# Altium schematic symbol library Garbage sort.SCHLIB: 34 symbols
Pins are listed as number, name and electrical type; pins without a type are passive.

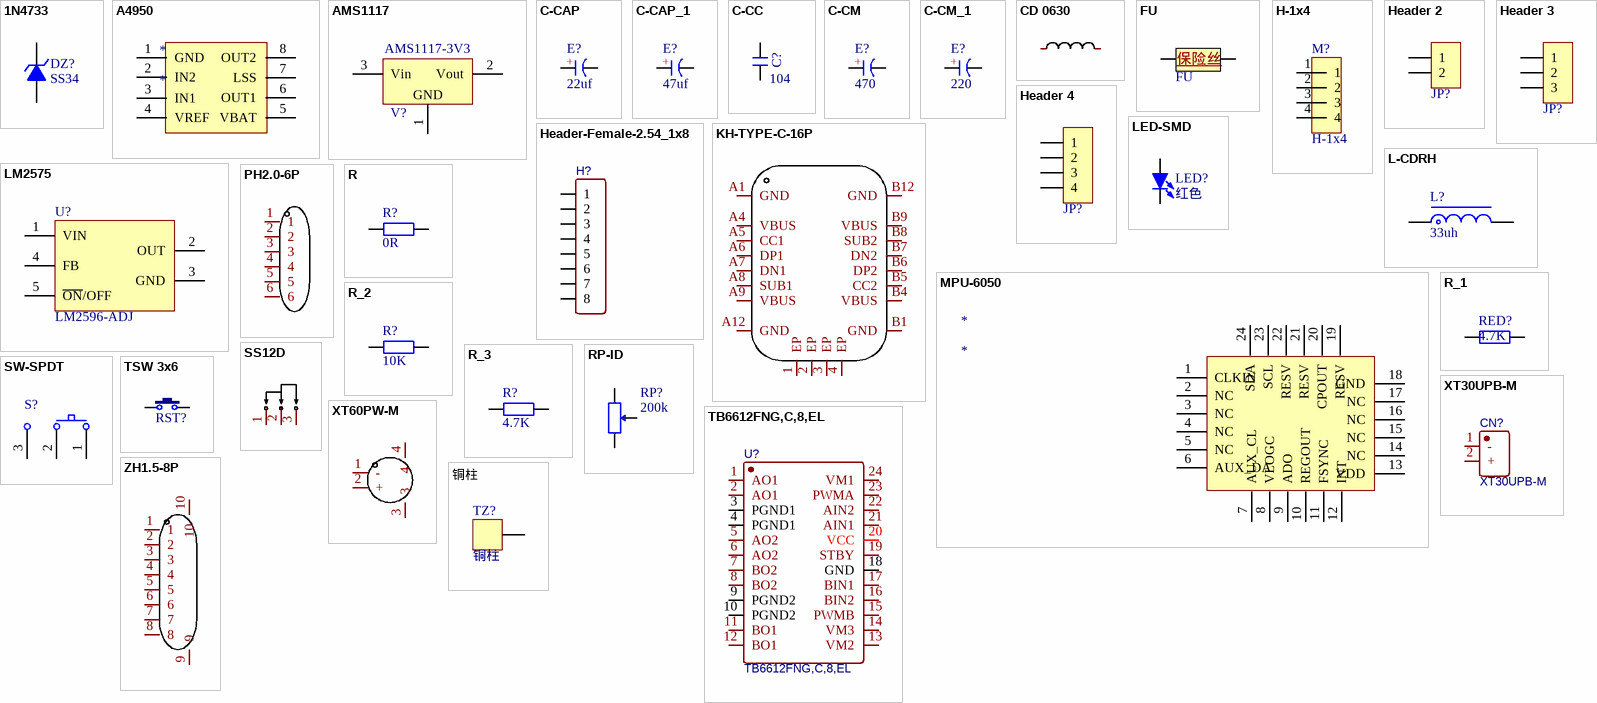
[diagram p0: symbols 1N4733 to 铜柱]

## 1N4733
designator DZ?, comment SS34
5.1V/1W稳压管; 版权归属: 源创客; BOM名称: 5.1V/1W稳压管; 学习资源: www.ooocke.com
footprint DO-41 (2.6*9.1mm(直径，脚距）)
footprint MELF (LL41) (2.4*5.3mm(直径，脚距）)
footprint DO-41V (2.6*3.5mm(直径，脚距）)
footprint SMA (4.5x2.6*2.2mm（长宽高，不包括引脚）)
pins: 1 A, 2 K

## A4950
designator *
全桥电机驱动芯片
footprint Model Name (Footprint not found)
pins: 1 GND, 2 IN2, 3 IN1, 4 VREF, 5 VBAT, 6 OUT1, 7 LSS, 8 OUT2

## AMS1117
designator V?, comment AMS1117-3V3
三端稳压芯片; BOM名称: 稳压芯片; 版权归属: 源创客; 学习资源: www.ooocke.com
footprint SOT223_L (6.4x7x1.6mm(长宽高))
footprint SOT223_M (6.4x7x1.6mm(长宽高))
footprint SOT223_N (6.4x7x1.6mm(长宽高))
footprint SOT89_L (4.6x4.3x1.6mm(长宽高))
footprint SOT89_N (4.6x4.3x1.6mm(长宽高))
footprint SOT89_M (4.6x4.3x1.6mm(长宽高))
pins: 1 GND, 2 Vout, 3 Vin

## C-CAP
designator E?, comment 22uf
直插电解电容; 版权归属: 源创客; BOM名称: 直插电解电容; 学习资源: www.ooocke.com
footprint CAP 1.5*4*8 (脚距1.5mm直径4mm高度8mm)
footprint CAP 1.5*4*8 - BK (脚距1.5mm直径4mm高度8mm)
footprint CAP 1.5*4*8 - GD (脚距1.5mm直径4mm高度8mm)
footprint CAP 1.5*4*8-H (脚距1.5mm直径4mm高度8mm)
footprint CAP 1.5*4*8-H - BK (脚距1.5mm直径4mm高度8mm)
footprint CAP 1.5*4*8-H - GD (脚距1.5mm直径4mm高度8mm)
footprint CAP 2.0*5*11 (脚距2mm直径5mm高度11mm)
footprint CAP 2.0*5*11 - BK (脚距2mm直径5mm高度11mm)
footprint CAP 2.0*5*11 - GD (脚距2mm直径5mm高度11mm)
footprint CAP 2.0*5*11-H (脚距2mm直径5mm高度11mm)
footprint CAP 2.0*5*11-H - BK (脚距2mm直径5mm高度11mm)
footprint CAP 2.0*5*11-H - GD (脚距2mm直径5mm高度11mm)
footprint CAP 2.5*5*11 (脚距2.5mm直径5mm高度11mm)
footprint CAP 2.5*5*11 - BK (脚距2.5mm直径5mm高度11mm)
footprint CAP 2.5*5*11 - GD (脚距2.5mm直径5mm高度11mm)
footprint CAP 2.5*5*11-H (脚距2.5mm直径5mm高度11mm)
footprint CAP 2.5*5*11-H - BK (脚距2.5mm直径5mm高度11mm)
footprint CAP 2.5*5*11-H - GD (脚距2.5mm直径5mm高度11mm)
footprint CAP 2.5*6.3*7 (脚距2.5mm直径6.3mm高度7mm)
footprint CAP 2.5*6.3*7 - BK (脚距2.5mm直径6.3mm高度7mm)
footprint CAP 2.5*6.3*7 - GD (脚距2.5mm直径6.3mm高度7mm)
footprint CAP 2.5*6.3*7-H (脚距2.5mm直径6.3mm高度7mm)
footprint CAP 2.5*6.3*7-H - BK (脚距2.5mm直径6.3mm高度7mm)
footprint CAP 2.5*6.3*7-H - GD (脚距2.5mm直径6.3mm高度7mm)
footprint CAP 2.5*6.3*11.2 (脚距2.5mm直径6.3mm高度11.2mm)
footprint CAP 2.5*6.3*11.2 - BK (脚距2.5mm直径6.3mm高度11.2mm)
footprint CAP 2.5*6.3*11.2 - GD (脚距2.5mm直径6.3mm高度11.2mm)
footprint CAP 2.5*6.3*11.2-H (脚距2.5mm直径6.3mm高度11.2mm)
footprint CAP 2.5*6.3*11.2-H - BK (脚距2.5mm直径6.3mm高度11.2mm)
footprint CAP 2.5*6.3*11.2-H - GD (脚距2.5mm直径6.3mm高度11.2mm)
footprint CAP 3.5*8*11.5 (脚距3.5mm直径8mm高度11.5mm)
footprint CAP 3.5*8*11.5 - BK (脚距3.5mm直径8mm高度11.5mm)
footprint CAP 3.5*8*11.5 - GD (脚距3.5mm直径8mm高度11.5mm)
footprint CAP 3.5*8*11.5-H (脚距3.5mm直径8mm高度11.5mm)
footprint CAP 3.5*8*11.5-H - BK (脚距3.5mm直径8mm高度11.5mm)
footprint CAP 3.5*8*11.5-H - GD (脚距3.5mm直径8mm高度11.5mm)
footprint CAP 5.0*10*12.5 (脚距5mm直径10mm高度12.5mm)
footprint CAP 5.0*10*12.5 - BK (脚距5mm直径10mm高度12.5mm)
footprint CAP 5.0*10*12.5 - GD (脚距5mm直径10mm高度12.5mm)
footprint CAP 5.0*10*12.5-H (脚距5mm直径10mm高度12.5mm)
footprint CAP 5.0*10*12.5-H - BK (脚距5mm直径10mm高度12.5mm)
footprint CAP 5.0*10*12.5-H - GD (脚距5mm直径10mm高度12.5mm)
footprint CAP 5.0*10*16 (脚距5mm直径10mm高度16mm)
footprint CAP 5.0*10*16 - BK (脚距5mm直径10mm高度16mm)
footprint CAP 5.0*10*16 - GD (脚距5mm直径10mm高度16mm)
footprint CAP 5.0*10*16-H (脚距5mm直径10mm高度16mm)
footprint CAP 5.0*10*16-H - BK (脚距5mm直径10mm高度16mm)
footprint CAP 5.0*10*16-H - GD (脚距5mm直径10mm高度16mm)
footprint CAP 5.0*10*20 (脚距5mm直径10mm高度20mm)
footprint CAP 5.0*10*20 - BK (脚距5mm直径10mm高度20mm)
footprint CAP 5.0*10*20 - GD (脚距5mm直径10mm高度20mm)
footprint CAP 5.0*10*20-H (脚距5mm直径10mm高度20mm)
footprint CAP 5.0*10*20-H - BK (脚距5mm直径10mm高度20mm)
footprint CAP 5.0*10*20-H - GD (脚距5mm直径10mm高度20mm)
footprint CAP 5.0*12.5*20 (脚距5mm直径12.5mm高度20mm)
footprint CAP 5.0*12.5*20 - BK (脚距5mm直径12.5mm高度20mm)
footprint CAP 5.0*12.5*20 - GD (脚距5mm直径12.5mm高度20mm)
footprint CAP 5.0*12.5*20-H (脚距5mm直径12.5mm高度20mm)
footprint CAP 5.0*12.5*20-H - BK (脚距5mm直径12.5mm高度20mm)
footprint CAP 5.0*12.5*20-H - GD (脚距5mm直径12.5mm高度20mm)
footprint CAP 5.0*12.5*25 (脚距5mm直径12.5mm高度25mm)
footprint CAP 5.0*12.5*25 - BK (脚距5mm直径12.5mm高度25mm)
footprint CAP 5.0*12.5*25 - GD (脚距5mm直径12.5mm高度25mm)
footprint CAP 5.0*12.5*25-H (脚距5mm直径12.5mm高度25mm)
footprint CAP 5.0*12.5*25-H - BK (脚距5mm直径12.5mm高度25mm)
footprint CAP 5.0*12.5*25-H - GD (脚距5mm直径12.5mm高度25mm)
footprint CAP 7.5*16*25 (脚距7.5mm直径16mm高度25mm)
footprint CAP 7.5*16*25 - BK (脚距7.5mm直径16mm高度25mm)
footprint CAP 7.5*16*25 - GD (脚距7.5mm直径16mm高度25mm)
footprint CAP 7.5*16*25-H (脚距7.5mm直径16mm高度25mm)
footprint CAP 7.5*16*25-H - BK (脚距7.5mm直径16mm高度25mm)
footprint CAP 7.5*16*25-H - GD (脚距7.5mm直径16mm高度25mm)
footprint CAP 7.5*16*31.5 (脚距7.5mm直径16mm高度31.5mm)
footprint CAP 7.5*16*31.5 - BK (脚距7.5mm直径16mm高度31.5mm)
footprint CAP 7.5*16*31.5 - GD (脚距7.5mm直径16mm高度31.5mm)
footprint CAP 7.5*16*31.5-H (脚距7.5mm直径16mm高度31.5mm)
footprint CAP 7.5*16*31.5-H - BK (脚距7.5mm直径16mm高度31.5mm)
footprint CAP 7.5*16*31.5-H - GD (脚距7.5mm直径16mm高度31.5mm)
footprint CAP 7.5*18*35.5 (脚距7.5mm直径18mm高度35.5mm)
footprint CAP 7.5*18*35.5 - BK (脚距7.5mm直径18mm高度35.5mm)
footprint CAP 7.5*18*35.5 - GD (脚距7.5mm直径18mm高度35.5mm)
footprint CAP 7.5*18*35.5-H (脚距7.5mm直径18mm高度35.5mm)
footprint CAP 7.5*18*35.5-H - BK (脚距7.5mm直径18mm高度35.5mm)
footprint CAP 7.5*18*35.5-H - GD (脚距7.5mm直径18mm高度35.5mm)
footprint CAP 10*22*31.5 (脚距10mm直径22mm高度31.5mm)
footprint CAP 10*22*31.5 - BK (脚距10mm直径22mm高度31.5mm)
footprint CAP 10*22*31.5 - GD (脚距10mm直径22mm高度31.5mm)
footprint CAP 10*22*40 (脚距10mm直径22mm高度40mm)
footprint CAP 10*22*40 - BK (脚距10mm直径22mm高度40mm)
footprint CAP 10*22*40 - GD (脚距10mm直径22mm高度40mm)
footprint CAP 1.5*4*8-H - BK (脚距1.5mm直径4mm高度8mm)
pins: 1 A, 2 K
text: +

## C-CAP_1
designator E?, comment 47uf
直插电解电容; 版权归属: 源创客; BOM名称: 直插电解电容; 学习资源: www.ooocke.com
footprint CAP 1.5*4*8 (脚距1.5mm直径4mm高度8mm)
footprint CAP 1.5*4*8 - BK (脚距1.5mm直径4mm高度8mm)
footprint CAP 1.5*4*8 - GD (脚距1.5mm直径4mm高度8mm)
footprint CAP 1.5*4*8-H (脚距1.5mm直径4mm高度8mm)
footprint CAP 1.5*4*8-H - BK (脚距1.5mm直径4mm高度8mm)
footprint CAP 1.5*4*8-H - GD (脚距1.5mm直径4mm高度8mm)
footprint CAP 2.0*5*11 (脚距2mm直径5mm高度11mm)
footprint CAP 2.0*5*11 - BK (脚距2mm直径5mm高度11mm)
footprint CAP 2.0*5*11 - GD (脚距2mm直径5mm高度11mm)
footprint CAP 2.0*5*11-H (脚距2mm直径5mm高度11mm)
footprint CAP 2.0*5*11-H - BK (脚距2mm直径5mm高度11mm)
footprint CAP 2.0*5*11-H - GD (脚距2mm直径5mm高度11mm)
footprint CAP 2.5*5*11 (脚距2.5mm直径5mm高度11mm)
footprint CAP 2.5*5*11 - BK (脚距2.5mm直径5mm高度11mm)
footprint CAP 2.5*5*11 - GD (脚距2.5mm直径5mm高度11mm)
footprint CAP 2.5*5*11-H (脚距2.5mm直径5mm高度11mm)
footprint CAP 2.5*5*11-H - BK (脚距2.5mm直径5mm高度11mm)
footprint CAP 2.5*5*11-H - GD (脚距2.5mm直径5mm高度11mm)
footprint CAP 2.5*6.3*7 (脚距2.5mm直径6.3mm高度7mm)
footprint CAP 2.5*6.3*7 - BK (脚距2.5mm直径6.3mm高度7mm)
footprint CAP 2.5*6.3*7 - GD (脚距2.5mm直径6.3mm高度7mm)
footprint CAP 2.5*6.3*7-H (脚距2.5mm直径6.3mm高度7mm)
footprint CAP 2.5*6.3*7-H - BK (脚距2.5mm直径6.3mm高度7mm)
footprint CAP 2.5*6.3*7-H - GD (脚距2.5mm直径6.3mm高度7mm)
footprint CAP 2.5*6.3*11.2 (脚距2.5mm直径6.3mm高度11.2mm)
footprint CAP 2.5*6.3*11.2 - BK (脚距2.5mm直径6.3mm高度11.2mm)
footprint CAP 2.5*6.3*11.2 - GD (脚距2.5mm直径6.3mm高度11.2mm)
footprint CAP 2.5*6.3*11.2-H (脚距2.5mm直径6.3mm高度11.2mm)
footprint CAP 2.5*6.3*11.2-H - BK (脚距2.5mm直径6.3mm高度11.2mm)
footprint CAP 2.5*6.3*11.2-H - GD (脚距2.5mm直径6.3mm高度11.2mm)
footprint CAP 3.5*8*11.5 (脚距3.5mm直径8mm高度11.5mm)
footprint CAP 3.5*8*11.5 - BK (脚距3.5mm直径8mm高度11.5mm)
footprint CAP 3.5*8*11.5 - GD (脚距3.5mm直径8mm高度11.5mm)
footprint CAP 3.5*8*11.5-H (脚距3.5mm直径8mm高度11.5mm)
footprint CAP 3.5*8*11.5-H - BK (脚距3.5mm直径8mm高度11.5mm)
footprint CAP 3.5*8*11.5-H - GD (脚距3.5mm直径8mm高度11.5mm)
footprint CAP 5.0*10*12.5 (脚距5mm直径10mm高度12.5mm)
footprint CAP 5.0*10*12.5 - BK (脚距5mm直径10mm高度12.5mm)
footprint CAP 5.0*10*12.5 - GD (脚距5mm直径10mm高度12.5mm)
footprint CAP 5.0*10*12.5-H (脚距5mm直径10mm高度12.5mm)
footprint CAP 5.0*10*12.5-H - BK (脚距5mm直径10mm高度12.5mm)
footprint CAP 5.0*10*12.5-H - GD (脚距5mm直径10mm高度12.5mm)
footprint CAP 5.0*10*16 (脚距5mm直径10mm高度16mm)
footprint CAP 5.0*10*16 - BK (脚距5mm直径10mm高度16mm)
footprint CAP 5.0*10*16 - GD (脚距5mm直径10mm高度16mm)
footprint CAP 5.0*10*16-H (脚距5mm直径10mm高度16mm)
footprint CAP 5.0*10*16-H - BK (脚距5mm直径10mm高度16mm)
footprint CAP 5.0*10*16-H - GD (脚距5mm直径10mm高度16mm)
footprint CAP 5.0*10*20 (脚距5mm直径10mm高度20mm)
footprint CAP 5.0*10*20 - BK (脚距5mm直径10mm高度20mm)
footprint CAP 5.0*10*20 - GD (脚距5mm直径10mm高度20mm)
footprint CAP 5.0*10*20-H (脚距5mm直径10mm高度20mm)
footprint CAP 5.0*10*20-H - BK (脚距5mm直径10mm高度20mm)
footprint CAP 5.0*10*20-H - GD (脚距5mm直径10mm高度20mm)
footprint CAP 5.0*12.5*20 (脚距5mm直径12.5mm高度20mm)
footprint CAP 5.0*12.5*20 - BK (脚距5mm直径12.5mm高度20mm)
footprint CAP 5.0*12.5*20 - GD (脚距5mm直径12.5mm高度20mm)
footprint CAP 5.0*12.5*20-H (脚距5mm直径12.5mm高度20mm)
footprint CAP 5.0*12.5*20-H - BK (脚距5mm直径12.5mm高度20mm)
footprint CAP 5.0*12.5*20-H - GD (脚距5mm直径12.5mm高度20mm)
footprint CAP 5.0*12.5*25 (脚距5mm直径12.5mm高度25mm)
footprint CAP 5.0*12.5*25 - BK (脚距5mm直径12.5mm高度25mm)
footprint CAP 5.0*12.5*25 - GD (脚距5mm直径12.5mm高度25mm)
footprint CAP 5.0*12.5*25-H (脚距5mm直径12.5mm高度25mm)
footprint CAP 5.0*12.5*25-H - BK (脚距5mm直径12.5mm高度25mm)
footprint CAP 5.0*12.5*25-H - GD (脚距5mm直径12.5mm高度25mm)
footprint CAP 7.5*16*25 (脚距7.5mm直径16mm高度25mm)
footprint CAP 7.5*16*25 - BK (脚距7.5mm直径16mm高度25mm)
footprint CAP 7.5*16*25 - GD (脚距7.5mm直径16mm高度25mm)
footprint CAP 7.5*16*25-H (脚距7.5mm直径16mm高度25mm)
footprint CAP 7.5*16*25-H - BK (脚距7.5mm直径16mm高度25mm)
footprint CAP 7.5*16*25-H - GD (脚距7.5mm直径16mm高度25mm)
footprint CAP 7.5*16*31.5 (脚距7.5mm直径16mm高度31.5mm)
footprint CAP 7.5*16*31.5 - BK (脚距7.5mm直径16mm高度31.5mm)
footprint CAP 7.5*16*31.5 - GD (脚距7.5mm直径16mm高度31.5mm)
footprint CAP 7.5*16*31.5-H (脚距7.5mm直径16mm高度31.5mm)
footprint CAP 7.5*16*31.5-H - BK (脚距7.5mm直径16mm高度31.5mm)
footprint CAP 7.5*16*31.5-H - GD (脚距7.5mm直径16mm高度31.5mm)
footprint CAP 7.5*18*35.5 (脚距7.5mm直径18mm高度35.5mm)
footprint CAP 7.5*18*35.5 - BK (脚距7.5mm直径18mm高度35.5mm)
footprint CAP 7.5*18*35.5 - GD (脚距7.5mm直径18mm高度35.5mm)
footprint CAP 7.5*18*35.5-H (脚距7.5mm直径18mm高度35.5mm)
footprint CAP 7.5*18*35.5-H - BK (脚距7.5mm直径18mm高度35.5mm)
footprint CAP 7.5*18*35.5-H - GD (脚距7.5mm直径18mm高度35.5mm)
footprint CAP 10*22*31.5 (脚距10mm直径22mm高度31.5mm)
footprint CAP 10*22*31.5 - BK (脚距10mm直径22mm高度31.5mm)
footprint CAP 10*22*31.5 - GD (脚距10mm直径22mm高度31.5mm)
footprint CAP 10*22*40 (脚距10mm直径22mm高度40mm)
footprint CAP 10*22*40 - BK (脚距10mm直径22mm高度40mm)
footprint CAP 10*22*40 - GD (脚距10mm直径22mm高度40mm)
footprint CAP 1.5*4*8-H - BK (脚距1.5mm直径4mm高度8mm)
pins: 1 A, 2 K
text: +

## C-CC
designator C?, comment 104
直插瓷片电容; 版权归属: 源创客; BOM名称: 直插瓷片电容; 学习资源: www.ooocke.com
footprint CC 1.8*3.6 (脚距1.8mm直径3.6mm)
footprint CC 2.2*5 (脚距2.2mm直径5mm)
footprint 0805
footprint C 0805_M (无极性贴片电容)
pins: 1, 2

## C-CM
designator E?, comment 470
贴片电解电容; 版权归属: 源创客; BOM名称: 贴片电解电容; 学习资源: www.ooocke.com
footprint CM A(3*5.4) (贴片电解电容，直径3mm，高5.4mm)
footprint CM B(4*5.4) (贴片电解电容，直径4mm，高5.4mm)
footprint CM C(5*5.4) (贴片电解电容，直径5mm，高5.4mm)
footprint CM D(6.3*5.4) (贴片电解电容，直径6.3mm，高5.4mm)
footprint CM D(6.3*7.7) (贴片电解电容，直径6.3mm，高7.7mm)
footprint CM E(8*6.2) (贴片电解电容，直径8mm，高6.2mm)
footprint CM E(8*10.2) (贴片电解电容，直径8mm，高10.2mm)
footprint CM F(10*10.2) (贴片电解电容，直径10mm，高10.2mm)
footprint CM G(12.5*13.5) (贴片电解电容，直径12.5mm，高13.5mm)
footprint CM G(12.5*16) (贴片电解电容，直径12.5mm，高16mm)
footprint CM H(16*16.5) (贴片电解电容，直径16mm，高16.5mm)
pins: 1 A, 2 K
text: +

## C-CM_1
designator E?, comment 220
贴片电解电容; 版权归属: 源创客; BOM名称: 贴片电解电容; 学习资源: www.ooocke.com
footprint CM A(3*5.4) (贴片电解电容，直径3mm，高5.4mm)
footprint CM B(4*5.4) (贴片电解电容，直径4mm，高5.4mm)
footprint CM C(5*5.4) (贴片电解电容，直径5mm，高5.4mm)
footprint CM D(6.3*5.4) (贴片电解电容，直径6.3mm，高5.4mm)
footprint CM D(6.3*7.7) (贴片电解电容，直径6.3mm，高7.7mm)
footprint CM E(8*6.2) (贴片电解电容，直径8mm，高6.2mm)
footprint CM E(8*10.2) (贴片电解电容，直径8mm，高10.2mm)
footprint CM F(10*10.2) (贴片电解电容，直径10mm，高10.2mm)
footprint CM G(12.5*13.5) (贴片电解电容，直径12.5mm，高13.5mm)
footprint CM G(12.5*16) (贴片电解电容，直径12.5mm，高16mm)
footprint CM H(16*16.5) (贴片电解电容，直径16mm，高16.5mm)
pins: 1 A, 2 K
text: +

## CD 0630
designator L??  (value not drawn)
Manufacturer: PSA(信昌电陶); Name: 10uH; Symbol: MCS0630-100MPY1; Add into BOM: yes; Value: 10uH; Tolerance: ±20%; Rated Current: 4A; Saturation Current (Isat): 5.5A; DC Resistance (DCR): 62mΩ; Device: MCS0630-100MPY1; LCSC Part Name: 10uH ±20% 4A 62mΩ; Supplier Part: C2937094; Manufacturer Part: MCS0630-100MPY1; Supplier Footprint: 0630; JLCPCB Part Class: Extended Part; Datasheet: https://atta.szlcsc.com/upload/public/pdf/source/20220121/EA6E6E6F70ED7BAE67EC293805EAAACB.pdf; Supplier: LCSC; Convert to PCB: yes
pins: 1, 2

## FU
designator F?
footprint FU
pins: 1, 2 "1"
text: 保险丝

## H-1x4
designator M?
footprint H-1x4 - duplicate
footprint HDR2.54-LI-4P (排针，4脚)
footprint XH2.54-LI-4P (接插件，4P)
pins: 1, 2, 3, 4

## Header 2
designator JP?, comment HDR-1X2  (value not drawn)
2P接插件; 版权归属: 源创客; BOM名称: 2P接插件; 学习资源: www.ooocke.com
footprint XH2.54-WI-2P (接插件，2P)
footprint XH2.54-LI-2P (接插件，2P)
footprint HDR2.54-LI-2P (排针，2脚)
footprint HDR2.54-M-LI-2P (排母，2脚)
footprint HDR2.54-WI-2P (弯脚排针，2脚)
footprint HDR2.54-WS-2P (2P卧式贴片排针2.54)
footprint HDR2.54-Y-LI-2P (圆孔排母，2脚)
footprint HDR2.54-M-WS-2P (2P卧式贴片排母2.54)
footprint KF2510-LI-2P (接插件/2A)
footprint XH2.54-WS-2P (长：10mm，宽：8mm，高：6.1mm)
footprint XH2.54-LS-2P (长：10mm，宽：6mm，高：8.3mm)
footprint KF2EDGK-2.54-LI-2P (长：6.93mm，宽：8.1mm，高：10.1mm)
footprint KF2EDGK-2.54-WI-2P (长：6.93mm，宽：10.1mm，高：8.1mm)
pins: 1, 2

## Header 3
designator JP?, comment HDR-1X3  (value not drawn)
3P接插件; 版权归属: 源创客; BOM名称: 3P接插件; 学习资源: www.ooocke.com
footprint XH2.54-WI-3P (接插件，3P)
footprint XH2.54-LI-3P (接插件，3P)
footprint HDR2.54-LI-3P (排针，3脚)
footprint HDR2.54-M-LI-3P (排母，3脚)
footprint HDR2.54-WI-3P (弯脚排针，3脚)
footprint HDR2.54-WS-3P (3P卧式贴片排针2.54)
footprint HDR2.54-Y-LI-3P (圆孔排母，3脚)
footprint HDR2.54-M-WS-3P (3P卧式贴片排母2.54)
footprint KF2510-LI-3P (接插件/2A)
footprint XH2.54-WS-3P (长：12.5mm，宽：8mm，高：6.1mm)
footprint XH2.54-LS-3P (长：12.5mm，宽：6mm，高：8.3mm)
footprint KF2EDGK-2.54-LI-3P (长：9.52mm，宽：8.1mm，高：10.1mm)
footprint KF2EDGK-2.54-WI-3P (长：9.52mm，宽：10.1mm，高：8.1mm)
pins: 1, 2, 3

## Header 4
designator JP?, comment HDR-1X4  (value not drawn)
4P接插件; 版权归属: 源创客; BOM名称: 4P接插件; 学习资源: www.ooocke.com
footprint XH2.54-WI-4P (接插件，4P)
footprint XH2.54-LI-4P (接插件，4P)
footprint HDR2.54-LI-4P (排针，4脚)
footprint HDR2.54-M-LI-4P (排母，4脚)
footprint HDR2.54-WI-4P (弯脚排针，4脚)
footprint HDR2.54-WS-4P (4P卧式贴片排针2.54)
footprint HDR2.54-Y-LI-4P (圆孔排母，4脚)
footprint HDR2.54-M-WS-4P (4P卧式贴片排母2.54)
footprint KF2510-LI-4P (接插件/2A)
footprint XH2.54-WS-4P (长：15mm，宽：8mm，高：6.1mm)
footprint XH2.54-LS-4P (长：15mm，宽：6mm，高：8.3mm)
footprint KF2EDGK-2.54-LI-4P (长：12.06mm，宽：8.1mm，高：10.1mm)
footprint KF2EDGK-2.54-WI-4P (长：12.06mm，宽：10.1mm，高：8.1mm)
pins: 1, 2, 3, 4

## Header-Female-2.54_1x8
designator H?  (value not drawn)
BOM_Manufacturer: BOOMELE; BOM_Manufacturer Part: Female headerHDR1X8-2.54; BOM_Supplier: LCSC; BOM_Supplier Part: C27438; spicePre: P; spiceSymbolName: Header-Female-2.54_1x8
footprint HDR-TH_8P-P2.54-V
footprint HDR2.54-M-LI-8P (排母，8脚)
pins: 1, 2, 3, 4, 5, 6, 7, 8

## KH-TYPE-C-16P
designator USB??  (value not drawn)
Manufacturer: kinghelm(金航标); Add into BOM: yes; Connector Type: Type-C; Gender: 母座; Number of Contacts: 16; Number of Ports: 1; Current Rating - Power (Max): 3A; Name: KH-TYPE-C-16P; Symbol: KH-TYPE-C-16P; Device: KH-TYPE-C-16P; LCSC Part Name: Type-C 母座 卧贴; Supplier Part: C709357; Manufacturer Part: KH-TYPE-C-16P; Supplier Footprint: SMD; JLCPCB Part Class: Extended Part; Datasheet: https://atta.szlcsc.com/upload/public/pdf/source/20200911/C709357_AA8DCEB38BB20E3035A7ED7AE7667837.pdf; Supplier: LCSC; Convert to PCB: yes; Standard: -; Mounting Style: 卧贴; Operating Temperature Range: -40℃~+85℃
footprint USB-TYPE-C-16P
pins: 1 EP, 2 EP, 3 EP, 4 EP, A1 GND, A4 VBUS, A5 CC1, A6 DP1, A7 DN1, A8 SUB1, A9 VBUS, A12 GND, B1 GND, B4 VBUS, B5 CC2, B6 DP2, B7 DN2, B8 SUB2, B9 VBUS, B12 GND

## L-CDRH
designator L?, comment 33uh
功率屏蔽电感; 版权归属: 源创客; BOM名称: 功率屏蔽电感; 学习资源: www.ooocke.com
footprint CDRH73 (7.3*7.3*3.4mm（长宽高）)
footprint CDRH74 (7.3*7.3*4.5mm（长宽高）)
footprint CDRH124 (12*12*4.5mm（长宽高）)
footprint CDRH125 (12*12*5mm（长宽高）)
footprint CDRH127 (12*12*8mm（长宽高）)
footprint CDRH129 (12*12*9.5mm（长宽高）)
pins: 1, 2

## LED-SMD
designator LED?, comment 红色
贴片LED; 版权归属: 源创客; BOM名称: 贴片LED; 学习资源: www.ooocke.com
footprint LED 0603W (白色0603LED)
footprint LED 0603R (红色0603LED)
footprint LED 0603B (蓝色0603LED)
footprint LED 0603G (绿色0603LED)
footprint LED 0603Y (黄色0603LED)
footprint LED 0805G (绿色0805LED)
footprint LED 0805R (红色0805LED)
footprint LED 0805B (蓝色0805LED)
footprint LED 0805Y (黄色0805LED)
footprint LED 3528-2Pin (2脚，3528LED)
footprint LED 1206G (绿色1206LED)
footprint LED 5730-V (紫色5730LED)
footprint LED 1206Y (黄色1206LED)
footprint LED 0805W (白色0805LED)
footprint LED 1206B (蓝色1206LED)
footprint LED 1206W (白色1206LED)
footprint LED 1206R (红色1206LED)
pins: 1 A, 2 K

## LM2575
designator U?, comment LM2596-ADJ
IC-power
footprint TO263-5
footprint TO220-5 (220，5特殊封装(该封装为顾客提供）)
pins: 1 VIN, 2 OUT, 3 GND, 4 FB, 5 ~{ON}/OFF

## MPU-6050
designator *
pins: 1 CLKIN, 2 NC, 3 NC, 4 NC, 5 NC, 6 AUX_DA, 7 AUX_CL, 8 VLOGC, 9 ADO, 10 REGOUT, 11 FSYNC, 12 INT, 13 VDD, 14 NC, 15 NC, 16 NC, 17 NC, 18 GND, 19 RESV, 20 CPOUT, 21 RESV, 22 RESV, 23 SCL, 24 SDA

## PH2.0-6P
designator P, comment HDGC2001WR-6P  (value not drawn)
接插件; Manufacturer: HDGC(华德共创); Add into BOM: yes; Name: HDGC2001WR-6P; Symbol: HDGC2001WR-6P; Device: HDGC2001WR-6P; LCSC Part Name: PH2.0弯针 6P; Supplier Part: C5175243; Manufacturer Part: HDGC2001WR-6P; Supplier Footprint: 弯插,P=2mm; JLCPCB Part Class: Extended Part; Datasheet: https://atta.szlcsc.com/upload/public/pdf/source/20220916/36534CA64A2134C65DEF28B604EC5CCB.pdf; Supplier: LCSC; Convert to PCB: yes
3D model CONN-TH_6P-P2.00_HDGC_HDGC2001WR-6P
footprint PH2.0-6P
pins: 1, 2, 3, 4, 5, 6

## R
designator R?, comment 0R
贴片电阻; 版权归属: 源创客; BOM名称: 贴片电阻; 学习资源: www.ooocke.com
footprint R 0201_L (1/20W贴片电阻)
footprint R 0402_L (1/16W贴片电阻)
footprint R 0603_L (1/10W贴片电阻)
footprint R 0805_L (1/8W贴片电阻)
footprint R 1206_L (1/4W贴片电阻)
footprint R 1210_L (1/3W贴片电阻)
footprint R 1812_L (1/2W贴片电阻)
footprint R 2010_L (3/4W贴片电阻)
footprint R 2512_L (1W贴片电阻)
footprint R 0201_M (1/20W贴片电阻)
footprint R 0402_M (1/16W贴片电阻)
footprint R 0603_M (1/10W贴片电阻)
footprint R 0805_M (1/8W贴片电阻)
footprint R 1206_M (1/4W贴片电阻)
footprint R 1210_M (1/3W贴片电阻)
footprint R 1812_M (1/2W贴片电阻)
footprint R 2010_M (3/4W贴片电阻)
footprint R 2512_M (1W贴片电阻)
pins: 1, 2

## R_1
designator RED?, comment 4.7K
贴片电阻; 版权归属: 源创客; BOM名称: 贴片电阻; 学习资源: www.ooocke.com
footprint R 0201_L (1/20W贴片电阻)
footprint R 0402_L (1/16W贴片电阻)
footprint R 0603_L (1/10W贴片电阻)
footprint R 0805_L (1/8W贴片电阻)
footprint R 1206_L (1/4W贴片电阻)
footprint R 1210_L (1/3W贴片电阻)
footprint R 1812_L (1/2W贴片电阻)
footprint R 2010_L (3/4W贴片电阻)
footprint R 2512_L (1W贴片电阻)
footprint R 0201_M (1/20W贴片电阻)
footprint R 0402_M (1/16W贴片电阻)
footprint R 0603_M (1/10W贴片电阻)
footprint R 0805_M (1/8W贴片电阻)
footprint R 1206_M (1/4W贴片电阻)
footprint R 1210_M (1/3W贴片电阻)
footprint R 1812_M (1/2W贴片电阻)
footprint R 2010_M (3/4W贴片电阻)
footprint R 2512_M (1W贴片电阻)
pins: 1, 2

## R_2
designator R?, comment 10K
贴片电阻; 版权归属: 源创客; BOM名称: 贴片电阻; 学习资源: www.ooocke.com
footprint R 0201_L (1/20W贴片电阻)
footprint R 0402_L (1/16W贴片电阻)
footprint R 0603_L (1/10W贴片电阻)
footprint R 0805_L (1/8W贴片电阻)
footprint R 1206_L (1/4W贴片电阻)
footprint R 1210_L (1/3W贴片电阻)
footprint R 1812_L (1/2W贴片电阻)
footprint R 2010_L (3/4W贴片电阻)
footprint R 2512_L (1W贴片电阻)
footprint R 0201_M (1/20W贴片电阻)
footprint R 0402_M (1/16W贴片电阻)
footprint R 0603_M (1/10W贴片电阻)
footprint R 0805_M (1/8W贴片电阻)
footprint R 1206_M (1/4W贴片电阻)
footprint R 1210_M (1/3W贴片电阻)
footprint R 1812_M (1/2W贴片电阻)
footprint R 2010_M (3/4W贴片电阻)
footprint R 2512_M (1W贴片电阻)
pins: 1, 2

## R_3
designator R?, comment 4.7K
贴片电阻; 版权归属: 源创客; BOM名称: 贴片电阻; 学习资源: www.ooocke.com
footprint R 0201_L (1/20W贴片电阻)
footprint R 0402_L (1/16W贴片电阻)
footprint R 0603_L (1/10W贴片电阻)
footprint R 0805_L (1/8W贴片电阻)
footprint R 1206_L (1/4W贴片电阻)
footprint R 1210_L (1/3W贴片电阻)
footprint R 1812_L (1/2W贴片电阻)
footprint R 2010_L (3/4W贴片电阻)
footprint R 2512_L (1W贴片电阻)
footprint R 0201_M (1/20W贴片电阻)
footprint R 0402_M (1/16W贴片电阻)
footprint R 0603_M (1/10W贴片电阻)
footprint R 0805_M (1/8W贴片电阻)
footprint R 1206_M (1/4W贴片电阻)
footprint R 1210_M (1/3W贴片电阻)
footprint R 1812_M (1/2W贴片电阻)
footprint R 2010_M (3/4W贴片电阻)
footprint R 2512_M (1W贴片电阻)
pins: 1, 2

## RP-ID
designator RP?, comment 200k
插件单联电位器; BOM名称: 插件电位器; 版权归属: 源创客; 学习资源: www.ooocke.com
footprint 3296W (Precise Multi-Winding Adjustable Resistor)
footprint 3306W
footprint 3319P
footprint 3362P
footprint 3386W
footprint RM065 (蓝白可调电位器)
footprint WH148-1-G15 (单联电位器，脚距：5mm，柄长：15mm)
footprint WH148-1-G18 (单联电位器，脚距：5mm，柄长：18mm)
footprint WH148-1-G20 (单联电位器，脚距：5mm，柄长：20mm)
footprint WH148-1-G25 (单联电位器，脚距：5mm，柄长：25mm)
footprint 3266W (长：7mm，宽：4.8mm，高：7.5mm)
footprint 3266X (长：7mm，宽：4.8mm，高：7.5mm)
footprint 3266Y (长：7mm，宽：4.8mm，高：7.5mm)
footprint 3266Z (长：7mm，宽：4.8mm，高：7.5mm)
footprint XV09223NPV-20F (长9.85mm，宽11.55mm，高20mm)
footprint XV09223NPV-25F (长9.85mm，宽11.55mm，高25mm)
footprint XV09223NPV-30F (长9.85mm，宽11.55mm，高30mm)
footprint 3006P (19.05mm*4.83mm*6.35mm(长*宽*高）)
pins: 1, 2, 3

## SS12D
designator SW, comment SS12D10G4 071  (value not drawn)
SS12D一路开关 12.7*6.7*6.4mm; Manufacturer: SHOU HAN(首韩); Add into BOM: yes; Name: SS12D10G4 071; Symbol: SS12D10G4 071; Device: SS12D10G4 071; LCSC Part Name: SS12D10G4 071; Supplier Part: C2887259; Manufacturer Part: SS12D10G4 071; Supplier Footprint: 插件; JLCPCB Part Class: Extended Part; Datasheet: https://atta.szlcsc.com/upload/public/pdf/source/20210820/80D1704BBF3FCEE0435FCAA54C61E0A3.pdf; Supplier: LCSC; Convert to PCB: yes
footprint SS12D
pins: 1, 2, 3

## SW-SPDT
designator S?, comment DRI_SW  (value not drawn)
footprint SW-SPDT
footprint 小船型开关
pins: 1, 2, 3

## TB6612FNG,C,8,EL
designator U?
BOM_Manufacturer: TOSHIBA; Contributor: LCSC; SMT Type: Extend; BOM_Supplier: LCSC; BOM_Manufacturer Part: TB6612FNG,C,8,EL; BOM_Supplier Part: C141517; BOM_JLCPCB SMD: Yes; spicePre: U; spiceSymbolName: TB6612FNG,C,8,EL
footprint SSOP-24_L8.1-W5.3-P0.65-LS7.8-BL
footprint SSOP28 (10.2*7.8*1.9mm（蒜米工坊）)
footprint SSOP28_M (10.2*7.8*1.9mm(长宽高）)
footprint SSOP24_M (8.3*7.8*1.6（长宽高）)
pins: 1 AO1, 2 AO1, 3 PGND1, 4 PGND1, 5 AO2, 6 AO2, 7 BO2, 8 BO2, 9 PGND2, 10 PGND2, 11 BO1, 12 BO1, 13 VM2, 14 VM3, 15 PWMB, 16 BIN2, 17 BIN1, 18 GND, 19 STBY, 20 VCC, 21 AIN1, 22 AIN2, 23 PWMA, 24 VM1

## TSW 3x6
designator RST?, comment 4路轻触开关  (value not drawn)
3x6轻触开关; 版权归属: 源创客; BOM名称: 3x6轻触开关; 学习资源: www.ooocke.com
footprint TSW SMD-3*6*2.5 (3*6*2.5mm)
pins: 1, 2

## XT30UPB-M
designator CN?
BOM_Manufacturer: Changzhou Amass Elec; Contributor: LCSC; BOM_Supplier: LCSC; BOM_Supplier Part: C428721; BOM_Manufacturer Part: XT30UPB-M; spicePre: C; spiceSymbolName: XT30UPB-M
footprint CONN-TH_XT30UPB-M
pins: 1 -, 2 +

## XT60PW-M
designator CN??  (value not drawn)
Manufacturer: AMASS(艾迈斯); Add into BOM: yes; Name: XT60PW-M; Symbol: XT60PW-M; Device: XT60PW-M; LCSC Part Name: AMASS(艾迈斯)航模插头xt90连接器150公母对接pw锂电池公头 板插卧式XT60PW-M; Supplier Part: C98732; Manufacturer Part: XT60PW-M; Supplier Footprint: -; JLCPCB Part Class: Extended Part; Datasheet: https://atta.szlcsc.com/upload/public/pdf/source/20180125/C98732_15168617837851301983.pdf; Supplier: LCSC; Convert to PCB: yes
3D model CONN-TH_XT60PW-M
footprint CONN-TH_XT60PW-M
pins: 1 -, 2 +, 3, 4

## ZH1.5-8P
designator P, comment 1.5K-BH-8PB  (value not drawn)
立贴ZH 1.5MM 8P 接线端子; Manufacturer: HDGC(华德共创); Add into BOM: yes; Name: 1.5K-BH-8PB; Symbol: 1.5K-BH-8PB; Device: 1.5K-BH-8PB; LCSC Part Name: 1x8P 间距P=1.5mm 立式 SMT; Supplier Part: C2919598; Manufacturer Part: 1.5K-BH-8PB; Supplier Footprint: SMD,P=1.5mm; JLCPCB Part Class: Extended Part; Datasheet: https://atta.szlcsc.com/upload/public/pdf/source/20211115/941864E8DB7AD29C63C657681A86366D.pdf; Supplier: LCSC; Convert to PCB: yes
3D model CONN-SMD_8P-P1.50_HDGC_1.5K-BH-8PB
footprint ZH1.5-8P
pins: 1, 2, 3, 4, 5, 6, 7, 8, 9, 10

## 铜柱
designator TZ?
footprint 定位孔 Φ3 1
pins: 1